# EAGLE library part PIC24HJ256GP206 (library My Library)
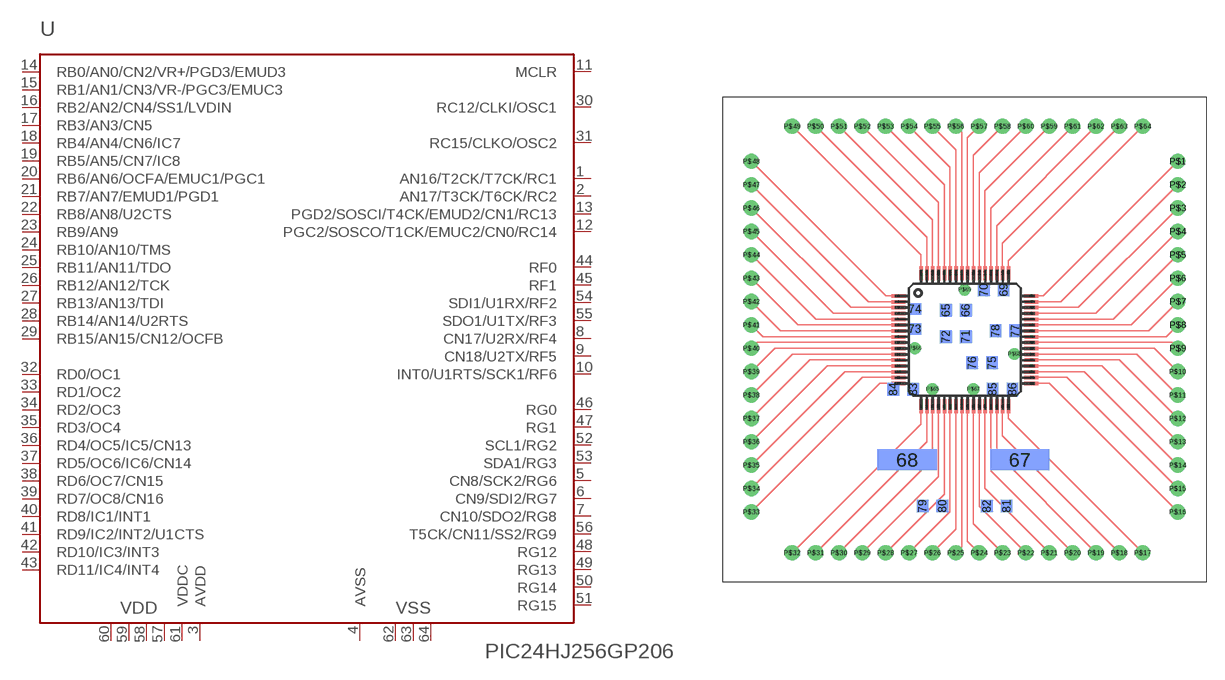
[diagram p19: symbol with the pads of PIC24SURFBOARD; footprint PIC24SURFBOARD]

Designator prefix -

## PIC24HJ256GP206  [PIC24SURFBOARD]
1  AN16/T2CK/T7CK/RC1
2  AN17/T3CK/T6CK/RC2
3  AVDD  pwr
4  AVSS  pwr
5  CN8/SCK2/RG6
6  CN9/SDI2/RG7
7  CN10/SDO2/RG8
8  CN17/U2RX/RF4
9  CN18/U2TX/RF5
10  INT0/U1RTS/SCK1/RF6
11  MCLR  in
12  PGC2/SOSCO/T1CK/EMUC2/CN0/RC14
13  PGD2/SOSCI/T4CK/EMUD2/CN1/RC13
14  RB0/AN0/CN2/VR+/PGD3/EMUD3
15  RB1/AN1/CN3/VR-/PGC3/EMUC3
16  RB2/AN2/CN4/SS1/LVDIN
17  RB3/AN3/CN5
18  RB4/AN4/CN6/IC7
19  RB5/AN5/CN7/IC8
20  RB6/AN6/OCFA/EMUC1/PGC1
21  RB7/AN7/EMUD1/PGD1
22  RB8/AN8/U2CTS
23  RB9/AN9
24  RB10/AN10/TMS
25  RB11/AN11/TDO
26  RB12/AN12/TCK
27  RB13/AN13/TDI
28  RB14/AN14/U2RTS
29  RB15/AN15/CN12/OCFB
30  RC12/CLKI/OSC1
31  RC15/CLKO/OSC2
32  RD0/OC1
33  RD1/OC2
34  RD2/OC3
35  RD3/OC4
36  RD4/OC5/IC5/CN13
37  RD5/OC6/IC6/CN14
38  RD6/OC7/CN15
39  RD7/OC8/CN16
40  RD8/IC1/INT1
41  RD9/IC2/INT2/U1CTS
42  RD10/IC3/INT3
43  RD11/IC4/INT4
44  RF0
45  RF1
46  RG0
47  RG1
48  RG12
49  RG13
50  RG14
51  RG15
52  SCL1/RG2
53  SDA1/RG3
54  SDI1/U1RX/RF2
55  SDO1/U1TX/RF3
56  T5CK/CN11/SS2/RG9
57  VDD  pwr
58  VDD  pwr
59  VDD  pwr
60  VDD  pwr
61  VDDC  pwr
62  VSS  pwr
63  VSS  pwr
64  VSS  pwr

## Footprint PIC24SURFBOARD (pad centres in mm)
smd 1.2 x 0.3: 1 15.07,24.48; 2 15.07,23.98; 3 15.07,23.48; 4 15.07,22.98; 5 15.07,22.48; 6 15.07,21.98; 7 15.07,21.48; 8 15.07,20.98; 9 15.07,20.48; 10 15.07,19.98; 11 15.07,19.48; 12 15.07,18.98; 13 15.07,18.48; 14 15.07,17.98; 15 15.07,17.48; 16 15.07,16.98; 33 26.47,16.98; 34 26.47,17.48; 35 26.47,17.98; 36 26.47,18.48; 37 26.47,18.98; 38 26.47,19.48; 39 26.47,19.98; 40 26.47,20.48; 41 26.47,20.98; 42 26.47,21.48; 43 26.47,21.98; 44 26.47,22.48; 45 26.47,22.98; 46 26.47,23.48; 47 26.47,23.98; 48 26.47,24.48
smd 0.3 x 1.2: 17 17.02,15.03; 18 17.52,15.03; 19 18.02,15.03; 20 18.52,15.03; 21 19.02,15.03; 22 19.52,15.03; 23 20.02,15.03; 24 20.52,15.03; 25 21.02,15.03; 26 21.52,15.03; 27 22.02,15.03; 28 22.52,15.03; 29 23.02,15.03; 30 23.52,15.03; 31 24.02,15.03; 32 24.52,15.03; 49 24.52,26.43; 50 24.02,26.43; 51 23.52,26.43; 52 23.02,26.43; 53 22.52,26.43; 54 22.02,26.43; 55 21.52,26.43; 56 21.02,26.43; 57 20.52,26.43; 58 20.02,26.43; 59 19.52,26.43; 60 19.02,26.43; 61 18.52,26.43; 62 18.02,26.43; 63 17.52,26.43; 64 17.02,26.43
smd 1 x 1.1 bottom: 65 19.15,23.25; 66 20.85,23.25; 69 24.1,25; 70 22.4,25; 71 20.85,21; 72 19.15,21; 75 23.1,18.75; 76 21.4,18.75; 77 25.1,21.5; 78 23.4,21.5; 79 17.15,6.5; 80 18.85,6.5; 81 24.35,6.5; 82 22.65,6.5; 83 16.35,16.5; 84 14.65,16.5; 85 23.15,16.5; 86 24.85,16.5
smd 5.08 x 1.778 bottom: 67 25.476,10.46; 68 15.824,10.46
smd 1.1 x 1 bottom: 73 16.5,21.65; 74 16.5,23.35
drill 0.8 round: P$1 39,36; P$2 39,34; P$3 39,32; P$4 39,30; P$5 39,28; P$6 39,26; P$7 39,24; P$8 39,22; P$9 39,20; P$10 39,18; P$11 39,16; P$12 39,14; P$13 39,12; P$14 39,10; P$15 39,8; P$16 39,6; P$17 36,2.5; P$18 34,2.5; P$19 32,2.5; P$20 30,2.5; P$21 28,2.5; P$22 26,2.5; P$23 24,2.5; P$24 22,2.5; P$25 20,2.5; P$26 18,2.5; P$27 16,2.5; P$28 14,2.5; P$29 12,2.5; P$30 10,2.5; P$31 8,2.5; P$32 6,2.5; P$33 2.5,6; P$34 2.5,8; P$35 2.5,10; P$36 2.5,12; P$37 2.5,14; P$38 2.5,16; P$39 2.5,18; P$40 2.5,20; P$41 2.5,22; P$42 2.5,24; P$43 2.5,26; P$44 2.5,28; P$45 2.5,30; P$46 2.5,32; P$47 2.5,34; P$48 2.5,36; P$49 6,39; P$50 8,39; P$51 10,39; P$52 12,39; P$53 14,39; P$54 16,39; P$55 18,39; P$56 20,39; P$57 22,39; P$58 24,39; P$59 28,39; P$60 26,39; P$61 30,39; P$62 32,39; P$63 34,39; P$64 36,39
drill 0.5 round: P$65 18,16.5; P$66 16.5,20; P$67 21.5,16.5; P$68 25,19.5; P$69 20.75,25